# Altium schematic symbol library PAS-IND-INDUCTOR-2.SchLib: 1 symbol
Pins are listed as number, name and electrical type; pins without a type are passive.

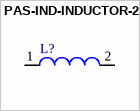
[diagram p0: symbol PAS-IND-INDUCTOR-2]

## PAS-IND-INDUCTOR-2
designator L?
pins: 1, 2